# Altium schematic symbol library BHI360.SchLib: 2 symbols
Pins are listed as number, name and electrical type; pins without a type are passive.

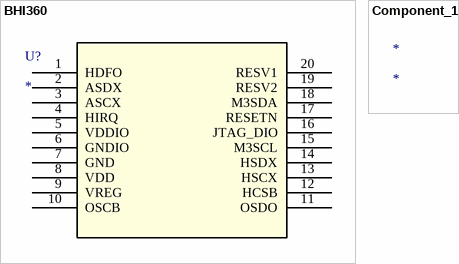
[diagram p0: symbols BHI360 to Component_1]

## BHI360
designator U?
No Description Available; Mfr_Name: Bosch Sensortec; Type: Motion Sensors; RefDes: RefDes
footprint LGA20_2p5X3X0p95_BOS
pins: 1 HDFO, 2 ASDX, 3 ASCX, 4 HIRQ, 5 VDDIO (power), 6 GNDIO (power), 7 GND (power), 8 VDD (power), 9 VREG, 10 OSCB, 11 OSDO, 12 HCSB, 13 HSCX, 14 HSDX, 15 M3SCL, 16 JTAG_DIO, 17 RESETN, 18 M3SDA, 19 RESV2, 20 RESV1

## Component_1
designator *